# Altium footprint library Разъемы импортные.PcbLib: 127 footprints (part 5 of 8)
Each footprint in its own frame and in the unit in brackets; x right, y up, seen from the top. Pads: shape width x height; smd on the part's side, far side on the other; paste and mask are expansions set on the pad; w line width, h text height; cw(c..) or ccw(c..) is an arc to the next point about the centre after c.
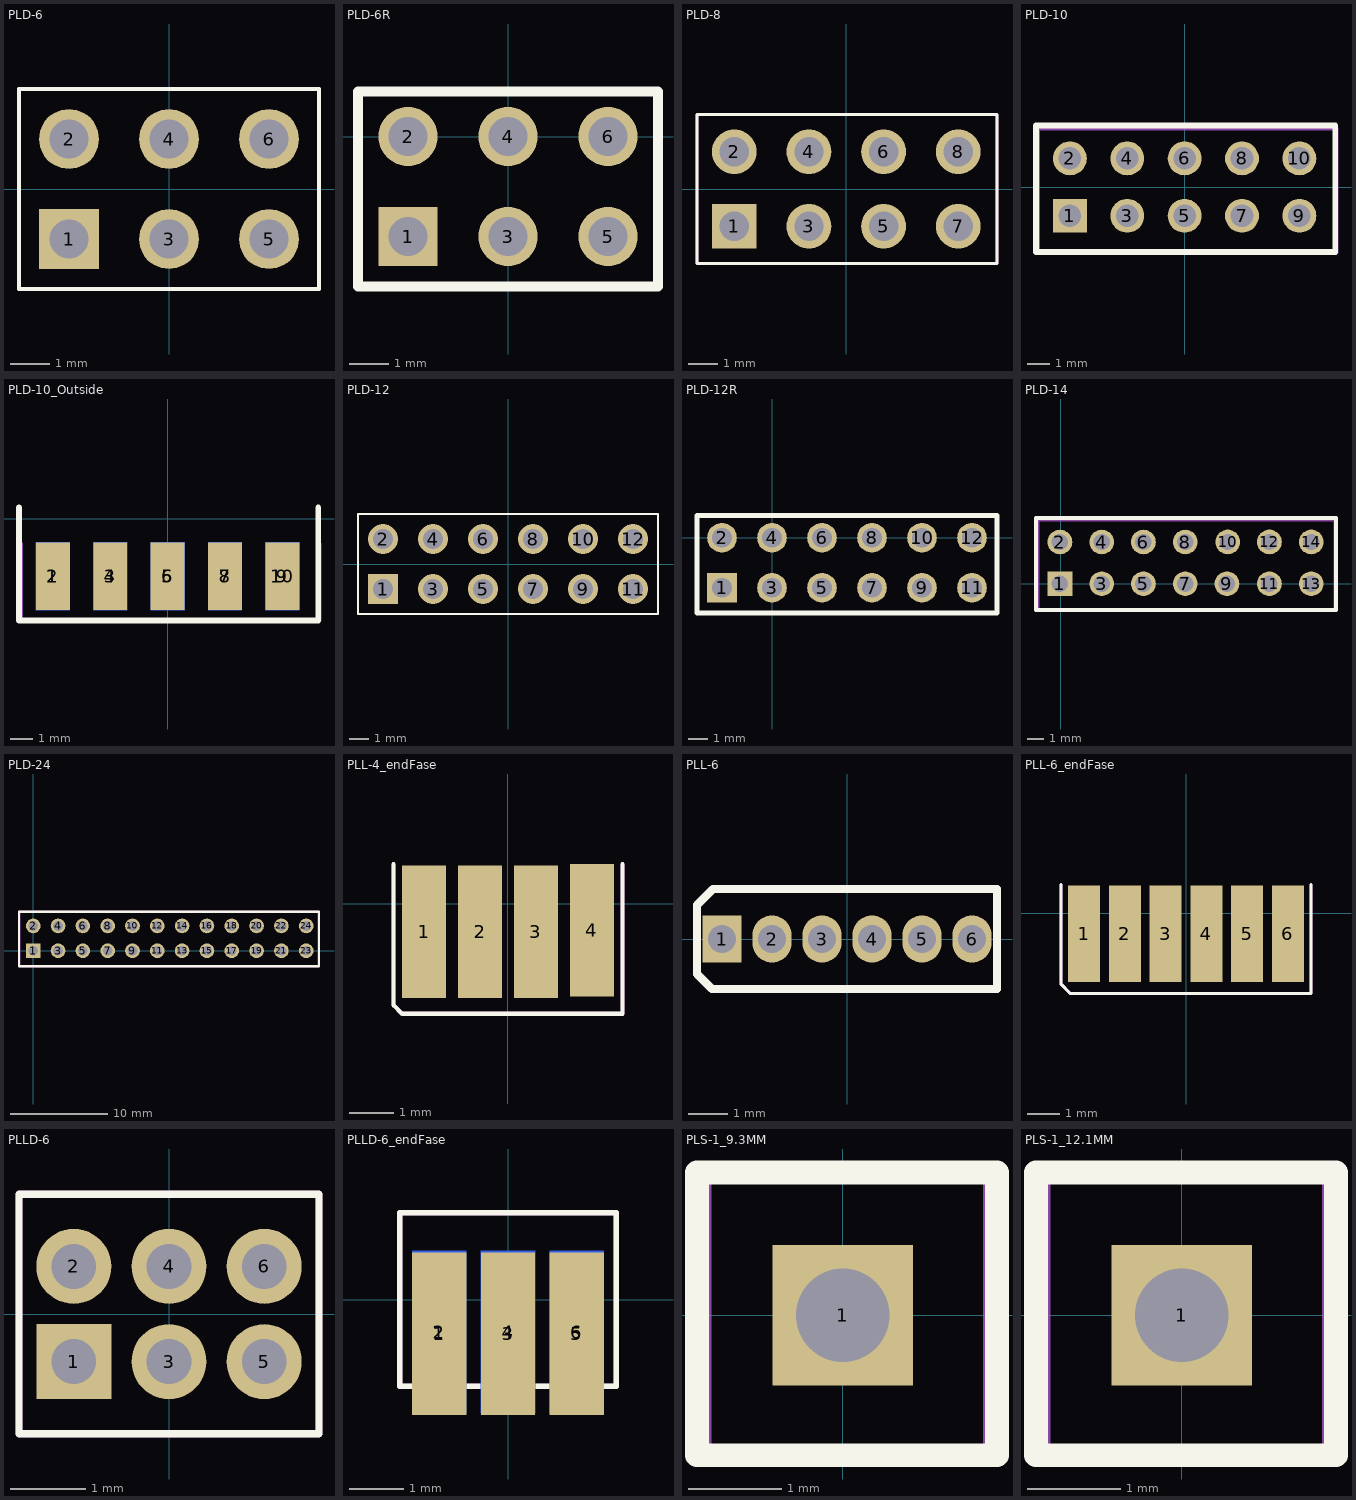
[diagram p4: the footprints below, top view; thin cyan lines are the x and y axes]

## PLD-6 [mil]
pads (6):
  rect 60x60 hole 39.37: 1(-100,-50)
  round 60 hole 39.37: 2(-100,50) 3(0,-50) 4(0,50) 5(100,-50) 6(100,50)
Top Overlay:
  lines w3.94: -150,-100 150,-100 150,100 -150,100 -150,-100
TopAssy:
  lines w3.94: -150,-100 -150,100 150,100 150,-100 -150,-100
  text ".Designator" at -100,-70 h118.11
3D body "PLD-2.step": height 336.22, standoff -116.54, extent -150,-99.99 -50,100.01
3D body "PLD-2.step": height 336.22, standoff -116.54, extent -50,-99.99 50,100.01
3D body "PLD-2.step": height 336.22, standoff -116.54, extent 50,-99.99 150,100.01

## PLD-6R [mm]
pads (6):
  rect 1.5x1.5 hole 1: 1(-2.54,-2.54)
  round 1.5 hole 1: 2(-2.54,0) 3(0,-2.54) 4(0,0) 5(2.54,-2.54) 6(2.54,0)
Top Overlay:
  lines w0.254: -3.81,-3.81 3.81,-3.81 3.81,1.143 -3.81,1.143 -3.81,-3.81
TopAssy:
  lines w0.2: -3.81,-3.81 -3.81,1.143 3.81,1.143 3.81,-3.81 -3.81,-3.81
  text ".Designator" at -2.54,-1.778 h3
3D body "PLD-6R.STEP": height 2.2, standoff -5.8, extent -3.81,-12.743 3.81,0.297

## PLD-8 [mil]
pads (8):
  rect 60x60 hole 39.37: 1(-150,-50)
  round 60 hole 39.37: 2(-150,50) 3(-50,-50) 4(-50,50) 5(50,-50) 6(50,50) 7(150,-50) 8(150,50)
Top Overlay:
  lines w3.94: -200,-100 201.97,-100 201.97,100 -200,100 -200,-100
TopAssy:
  lines w3.94: -200,-100 -200,100 201.97,100 201.97,-100 -200,-100
  text ".Designator" at -150,-70 h118.11
3D body "PLD-2.step": height 336.22, standoff -116.54, extent -200,-99.99 -100,100.01
3D body "PLD-2.step": height 336.22, standoff -116.54, extent -100,-99.99 0,100.01
3D body "PLD-2.step": height 336.22, standoff -116.54, extent 0,-99.99 100,100.01
3D body "PLD-2.step": height 336.22, standoff -116.54, extent 100,-99.99 200,100.01

## PLD-10 [mm]
pads (10):
  rect 1.5x1.5 hole 1: 1(-5.08,-1.27)
  round 1.5 hole 1: 2(-5.08,1.27) 3(-2.54,-1.27) 4(-2.54,1.27) 5(0,-1.27) 6(0,1.27) 7(2.54,-1.27) 8(2.54,1.27) 9(5.08,-1.27) 10(5.08,1.27)
Top Overlay:
  lines w0.254: -6.58,-2.87 6.67,-2.87 6.67,2.73 -6.58,2.73 -6.58,-2.87
TopAssy:
  lines w0.2: -6.5,-2.9 6.7,-2.9 6.7,2.6 -6.5,2.6 -6.5,-2.9
  text ".Designator" at -5.7,-0.8 h3
3D body "PLD-2.STEP": height 8.44, standoff -3, extent -6.35,-2.54 -3.81,2.54
3D body "PLD-2.STEP": height 8.44, standoff -3, extent -3.81,-2.54 -1.27,2.54
3D body "PLD-2.STEP": height 8.44, standoff -3, extent -1.27,-2.54 1.27,2.54
3D body "PLD-2.STEP": height 8.44, standoff -3, extent 1.27,-2.54 3.81,2.54
3D body "PLD-2.STEP": height 8.44, standoff -3, extent 3.81,-2.54 6.35,2.54

## PLD-10_Outside [mm]
pads (10):
  rect 1.5x3 smd: 1(-5.08,-2.54) 3(-2.54,-2.54) 5(0,-2.54) 7(2.54,-2.54) 9(5.08,-2.54)
  rect 1.5x3 smd far side: 2(-5.08,-2.54) 4(-2.54,-2.54) 6(0,-2.54) 8(2.54,-2.54) 10(5.08,-2.54)
Top Overlay:
  lines w0.254: -6.58,0.5 -6.58,-4.5 6.67,-4.5 6.67,0.5
TopAssy:
  lines w0.2: -6.5,-1.1 -6.5,-4.5 6.7,-4.5 6.7,-1.1
  text ".Designator" at -5.8,-3.4 h3
3D body "PLD-2.STEP": height 1.54, standoff -3.54, extent 3.81,-3 6.35,8.44
3D body "PLD-2.STEP": height 1.54, standoff -3.54, extent 1.27,-3 3.81,8.44
3D body "PLD-2.STEP": height 1.54, standoff -3.54, extent -1.27,-3 1.27,8.44
3D body "PLD-2.STEP": height 1.54, standoff -3.54, extent -3.81,-3 -1.27,8.44
3D body "PLD-2.STEP": height 1.54, standoff -3.54, extent -6.35,-3 -3.81,8.44

## PLD-12 [mil]
pads (12):
  rect 60x60 hole 39.37: 1(-250,-50)
  round 60 hole 39.37: 2(-250,50) 3(-150,-50) 4(-150,50) 5(-50,-50) 6(-50,50) 7(50,-50) 8(50,50) 9(150,-50) 10(150,50) 11(250,-50) 12(250,50)
Top Overlay:
  lines w3.94: -300,-100 -300,100 300,100 300,-100 -300,-100
TopAssy:
  lines w3.94: -300,-100 300,-100 300,100 -300,100 -300,-100
  text ".Designator" at -250,-70 h118.11
3D body "PLD-2.step": height 336.22, standoff -116.54, extent -100,-99.99 0,100.01
3D body "PLD-2.step": height 336.22, standoff -116.54, extent -200,-99.99 -100,100.01
3D body "PLD-2.step": height 336.22, standoff -116.54, extent -300,-99.99 -200,100.01
3D body "PLD-2.step": height 336.22, standoff -116.54, extent 0,-99.99 100,100.01
3D body "PLD-2.step": height 336.22, standoff -116.54, extent 100,-99.99 200,100.01
3D body "PLD-2.step": height 336.22, standoff -116.54, extent 200,-99.99 300,100.01

## PLD-12R [mm]
pads (12):
  rect 1.5x1.5 hole 1: 1(-2.54,-2.54)
  round 1.5 hole 1: 2(-2.54,0) 3(0,-2.54) 4(0,0) 5(2.54,-2.54) 6(2.54,0) 7(5.08,-2.54) 8(5.08,0) 9(7.62,-2.54) 10(7.62,0) 11(10.16,-2.54) 12(10.16,0)
Top Overlay:
  lines w0.254: -3.81,-3.81 11.43,-3.81 11.43,1.143 -3.81,1.143 -3.81,-3.81
TopAssy:
  lines w0.2: -3.81,-3.81 -3.81,1.143 11.43,1.143 11.43,-3.81 -3.81,-3.81
  text ".Designator" at -2.54,-1.778 h3
3D body "PLD-6R.STEP": height 1.5, standoff -6.5, extent 3.81,-12.743 11.43,0.297
3D body "PLD-6R.STEP": height 1.5, standoff -6.5, extent -3.81,-12.743 3.81,0.297

## PLD-14 [mm]
pads (14):
  rect 1.5x1.5 hole 1: 1(-0.043,-0.003)
  round 1.5 hole 1: 2(-0.043,2.537) 3(2.497,-0.003) 4(2.497,2.537) 5(5.037,-0.003) 6(5.037,2.537) 7(7.577,-0.003) 8(7.577,2.537) 9(10.117,-0.003) 10(10.16,2.54) 11(12.7,0) 12(12.7,2.54) 13(15.24,0) 14(15.24,2.54)
Top Overlay:
  lines w0.254: -1.5,-1.6 -1.5,4 16.75,4 16.75,-1.6 -1.5,-1.6
TopAssy:
  lines w0.2: -1.4,-1.6 16.7,-1.6 16.7,3.9 -1.4,3.9 -1.4,-1.6
  text ".Designator" at -0.6,0.5 h3
3D body "PLD-2.STEP": height 8.44, standoff -3, extent 14.013,-1.267 16.553,3.813
3D body "PLD-2.STEP": height 8.44, standoff -3, extent 11.473,-1.267 14.013,3.813
3D body "PLD-2.STEP": height 8.44, standoff -3, extent 8.89,-1.27 11.43,3.81
3D body "PLD-2.STEP": height 8.44, standoff -3, extent 6.35,-1.27 8.89,3.81
3D body "PLD-2.STEP": height 8.44, standoff -3, extent 3.81,-1.27 6.35,3.81
3D body "PLD-2.STEP": height 8.44, standoff -3, extent 1.27,-1.27 3.81,3.81
3D body "PLD-2.STEP": height 8.44, standoff -3, extent -1.27,-1.27 1.27,3.81

## PLD-24 [mm]
pads (24):
  rect 1.5x1.5 hole 1: 1(0,0)
  round 1.5 hole 1: 2(0,2.54) 3(2.54,0) 4(2.54,2.54) 5(5.08,0) 6(5.08,2.54) 7(7.62,0) 8(7.62,2.54) 9(10.16,0) 10(10.16,2.54) 11(12.7,0) 12(12.7,2.54) 13(15.24,0) 14(15.24,2.54) 15(17.78,0) 16(17.78,2.54) 17(20.32,0) 18(20.32,2.54) 19(22.86,0) 20(22.86,2.54) 21(25.4,0) 22(25.4,2.54) 23(27.94,0) 24(27.94,2.54)
Top Overlay:
  lines w0.254: -1.457,-1.597 -1.457,4.003 29.25,4.003 29.25,-1.597 -1.457,-1.597
TopAssy:
  lines w0.2: -1.4,-1.6 -1.4,4 29.2,4 29.2,-1.6 -1.4,-1.6
  text ".Designator" at -0.6,0.5 h3
3D body "PLD-2.STEP": height 8.44, standoff -3, extent 26.67,-1.27 29.21,3.81
3D body "PLD-2.STEP": height 8.44, standoff -3, extent 24.13,-1.27 26.67,3.81
3D body "PLD-2.STEP": height 8.44, standoff -3, extent 21.59,-1.27 24.13,3.81
3D body "PLD-2.STEP": height 8.44, standoff -3, extent 19.05,-1.27 21.59,3.81
3D body "PLD-2.STEP": height 8.44, standoff -3, extent 16.51,-1.27 19.05,3.81
3D body "PLD-2.STEP": height 8.44, standoff -3, extent 13.97,-1.27 16.51,3.81
3D body "PLD-2.STEP": height 8.44, standoff -3, extent 11.43,-1.27 13.97,3.81
3D body "PLD-2.STEP": height 8.44, standoff -3, extent 8.89,-1.27 11.43,3.81
3D body "PLD-2.STEP": height 8.44, standoff -3, extent 6.35,-1.27 8.89,3.81
3D body "PLD-2.STEP": height 8.44, standoff -3, extent 3.81,-1.27 6.35,3.81
3D body "PLD-2.STEP": height 8.44, standoff -3, extent 1.27,-1.27 3.81,3.81
3D body "PLD-2.STEP": height 8.44, standoff -3, extent -1.27,-1.27 1.27,3.81

## PLL-4_endFase [mm]
pads (4):
  rect 1x3 smd: 1(-1.905,-0.635) 2(-0.635,-0.635) 3(0.635,-0.635) 4(1.905,-0.6)
Top Overlay:
  lines w0.1: -2.6,0.9 -2.6,-2.3 -2.4,-2.5 2.6,-2.5 2.6,0.9
TopAssy:
  lines w0.1: -2.6,0.9 -2.6,-2.3 -2.4,-2.5 2.6,-2.5 2.6,0.9
  text ".Designator" at -1.6,-0.4 h1.52
3D body "DS1031-01-1x4P8BV3-1.STEP": height 1.5, standoff -1, extent -2.54,-1.41 2.54,5.79

## PLL-6 [mm]
pads (6):
  rect 1x1.2 hole 0.7: 1(-3.175,0)
  oval 1x1.2 hole 0.7: 2(-1.905,0) 3(-0.635,0) 4(0.635,0) 5(1.905,0) 6(3.175,0)
Top Overlay:
  lines w0.2: -3.81,-0.889 -3.81,0.864 -3.404,1.27 3.81,1.27 3.81,-1.27 -3.429,-1.27 -3.81,-0.889
TopAssy:
  lines w0.2: -3.81,-0.889 -3.429,-1.27 3.81,-1.27 3.81,1.27 -3.404,1.27 -3.81,0.864 -3.81,-0.889
  text ".Designator" at -3.928,-0.979 h3
3D body "PLS-6_1.27mm_DS1031-01-1x6P8BV3-1.STEP": height 4.61, standoff -2.59, extent -3.81,-1.25 3.81,1.25

## PLL-6_endFase [mm]
pads (6):
  rect 1x3 smd: 1(-3.175,-0.635) 2(-1.905,-0.635) 3(-0.635,-0.635) 4(0.635,-0.635) 5(1.905,-0.635) 6(3.175,-0.635)
Top Overlay:
  lines w0.1: -3.9,0.9 -3.9,-2.2 -3.6,-2.5 3.9,-2.5 3.9,0.9
TopAssy:
  lines w0.1: -3.9,0.9 -3.9,-2.2 -3.6,-2.5 3.9,-2.5 3.9,0.9
  text ".Designator" at -1.6,-0.4 h1.52
3D body "DS1031-01-1x6P8BV3-1.STEP": height 1.5, standoff -1, extent -3.81,-1.71 3.81,5.49

## PLLD-6 [mm]
pads (6):
  rect 1x1 hole 0.6: 1(-1.27,-0.635)
  round 1 hole 0.6: 2(-1.27,0.635) 3(0,-0.635) 4(0,0.635) 5(1.27,-0.635) 6(1.27,0.635)
Top Overlay:
  lines w0.1: -2,-1.6 2,-1.6 2,1.6 -2,1.6 -2,-1.6
TopAssy:
  lines w0.1: -2,-1.6 2,-1.6 2,1.6 -2,1.6 -2,-1.6
  text ".Designator" at -1.6,-0.4 h1.52
3D body "PLLD1_27-06.step": height 4.7, standoff -2.6, extent -1.905,-1.5 1.905,1.5

## PLLD-6_endFase [mm]
pads (6):
  rect 1x3 smd: 1(-1.27,-0.635) 3(0,-0.635) 5(1.27,-0.635)
  rect 1x3 smd far side: 2(-1.27,-0.6) 4(0,-0.6) 6(1.27,-0.6)
Top Overlay:
  lines w0.1: -2,-1.6 2,-1.6 2,1.6 -2,1.6 -2,-1.6
TopAssy:
  lines w0.1: -2,-1.6 2,-1.6 2,1.6 -2,1.6 -2,-1.6
  text ".Designator" at -1.6,-0.4 h1.52
3D body "PLLD1_27-06.step": height 1.1, standoff -1.9, extent -1.905,-1.6 1.905,5.7

## PLS-1_9.3MM [mm]
pads (1):
  rect 1.5x1.5 hole 1: 1(0,0)
Top Overlay:
  lines w0.254: -1.557,-1.497 1.65,-1.497 1.65,1.524 -1.557,1.524 -1.557,-1.497
TopAssy:
  lines w0.2: -1.5,-1.5 -1.5,1.524 1.6,1.524 1.6,-1.5 -1.5,-1.5
  text ".Designator" at -0.7,0.6 h3
3D body "PLS-1.step": height 8.44, standoff -3, extent -1.27,-1.27 1.27,1.27

## PLS-1_12.1MM [mm]
pads (1):
  rect 1.5x1.5 hole 1: 1(0,0)
Top Overlay:
  lines w0.254: -1.557,-1.497 -1.557,1.524 1.65,1.524 1.65,-1.497 -1.557,-1.497
TopAssy:
  lines w0.2: -1.5,-1.5 1.6,-1.5 1.6,1.524 -1.5,1.524 -1.5,-1.5
  text ".Designator" at -0.7,0.6 h3
3D body "PLS-1 _12.1 мм.stp": height 14.64, standoff -3, extent -1.27,-1.27 1.27,1.27